# Altium schematic symbol library AD8065WARTZ-R2.Schlib: 1 symbol
Pins are listed as number, name and electrical type; pins without a type are passive.

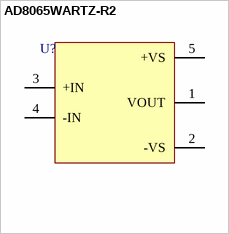
[diagram p0: symbol AD8065WARTZ-R2]

## AD8065WARTZ-R2
designator U?
Voltage Feedback Amplifier 1 Circuit Rail-to-Rail SOT-23-5
pins: 1 VOUT, 2 -VS (power), 3 +IN, 4 -IN, 5 +VS (power)